# Altium footprint library UDEMY_Library.PcbLib: 35 footprints (part 2 of 3)
Each footprint in its own frame and in the unit in brackets; x right, y up, seen from the top. Pads: shape width x height; smd on the part's side, far side on the other; paste and mask are expansions set on the pad; w line width, h text height; cw(c..) or ccw(c..) is an arc to the next point about the centre after c.
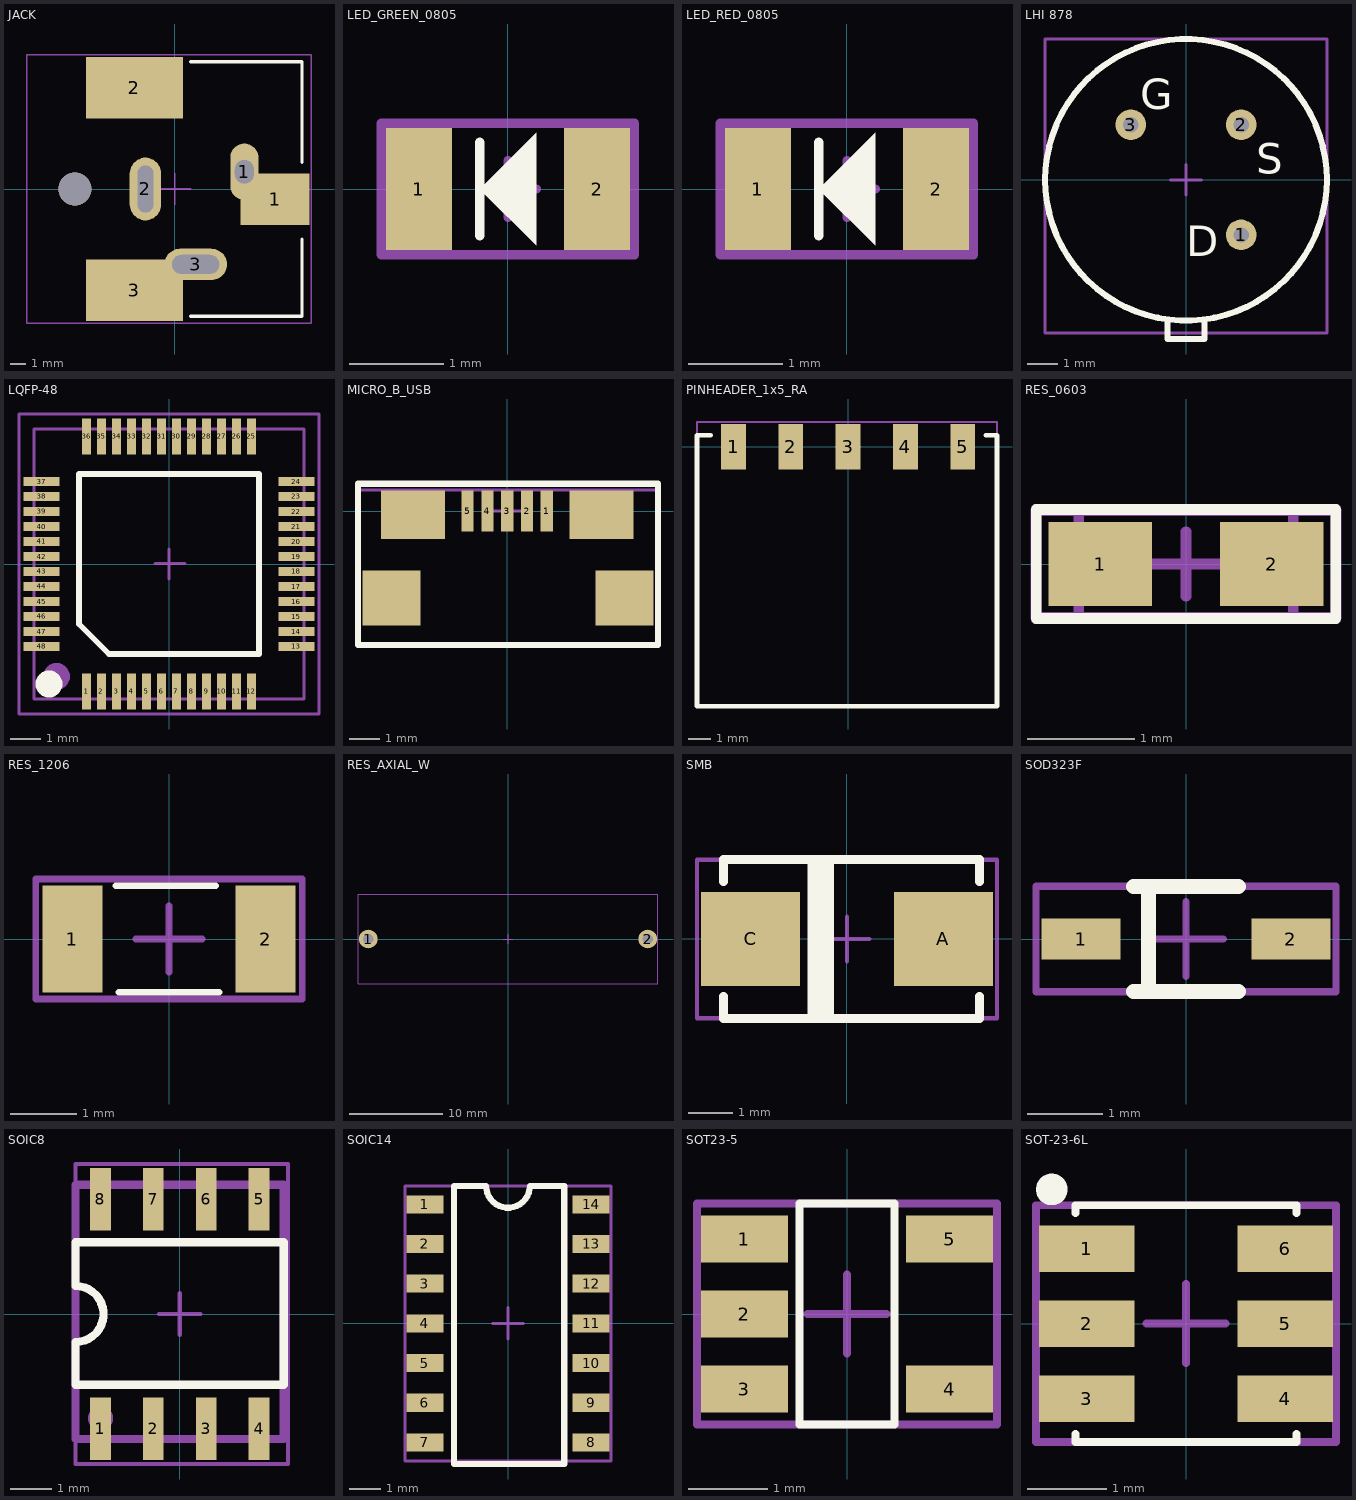
[diagram p1: the footprints below, top view; thin cyan lines are the x and y axes]

## JACK [mm]
pads (7):
  oval 1.8x3.6 hole 1.2 slot 1.5 at 90 deg: 1(4.425,1.1)
  rect 4.4x3.3 smd: 1(6.375,-0.65)
  rect 6.2x3.9 smd: 2(-2.575,6.45) 3(-2.575,-6.45)
  oval 2x4 hole 1 slot 3 at 90 deg: 2(-1.875,0)
  oval 4x2 hole 1.2 slot 3 at 0 deg: 3(1.325,-4.8)
  round 2.1 hole 2.1 unplated: ""(-6.375,0)
Top Overlay:
  lines w0.2: 1,-8.1 8.1,-8.1 8.1,-3.2 ; 1,8.1 8.1,8.1 8.1,1.7
Top Component Center:
  lines w0.1: -1,0 1,0 ; 0,-1 0,1 ; -9.425,-8.55 8.675,-8.55 8.675,8.55 -9.425,8.55 -9.425,-8.55
Top Designator:
  lines w0.1: -9.425,-8.55 -9.425,8.55 8.675,8.55 8.675,-8.55 -9.425,-8.55
  text "'.Designator'" at -6,-0.9 h1.52
3D body "PJ-037AH-SMT-TR.step": height 11.11, standoff -3.29, extent -9.425,-7.55 7.675,7.65

## LED_GREEN_0805 [mm]
pads (2):
  rect 0.7x1.3 smd mask+0.05: 1(-0.95,0) 2(0.95,0)
Top Overlay:
  region: -0.3,0 0.3,0.6 0.3,-0.6
  lines w0.1: -0.3,-0.5 -0.3,0.5
Top Component Center:
  lines w0.1: -0.3,0 0.3,0 ; 0,-0.3 0,0.3 ; -1.35,-0.7 -1.35,0.7 1.35,0.7 1.35,-0.7 -1.35,-0.7
Top Designator:
  lines w0.1: -1.35,-0.7 -1.35,0.7 1.35,0.7 1.35,-0.7 -1.35,-0.7
  text "'.Designator'" at -1.4,-0.7 h0.7
3D body "SMD_0805LED_GREEN.STEP": height 1.1, standoff 0, extent -1.01,-0.625 1.01,0.625

## LED_RED_0805 [mm]
pads (2):
  rect 0.7x1.3 smd mask+0.05: 1(-0.95,0) 2(0.95,0)
Top Overlay:
  region: -0.3,0 0.3,0.6 0.3,-0.6
  lines w0.1: -0.3,-0.5 -0.3,0.5
Top Component Center:
  lines w0.1: -0.3,0 0.3,0 ; 0,-0.3 0,0.3 ; -1.35,-0.7 -1.35,0.7 1.35,0.7 1.35,-0.7 -1.35,-0.7
Top Designator:
  lines w0.1: -1.35,-0.7 -1.35,0.7 1.35,0.7 1.35,-0.7 -1.35,-0.7
  text "'.Designator'" at -1.4,-0.7 h0.7
3D body "SMD_0805LED_RED.STEP": height 1.1, standoff 0, extent -1.01,-0.625 1.01,0.625

## LHI 878 [mm]
pads (3):
  round 1 hole 0.5 mask+0.05: 1(1.8,-1.8) 2(1.8,1.8) 3(-1.8,1.8)
Top Overlay:
  circle w0.2: c0,0 r4.6
  lines w0.2: -0.6,-4.6 -0.6,-4.8 -0.6,-5.2 0.6,-5.2 0.6,-4.6
  text "D" at 0,-2.5 h1
  text "S" at 2.3,0.2 h1
  text "G" at -1.5,2.3 h1
Top Component Center:
  lines w0.1: -0.5,0 0.5,0 ; 0,-0.5 0,0.5 ; -4.6,-5 4.6,-5 4.6,4.6 -4.6,4.6 -4.6,-5
Top Designator:
  lines w0.1: -4.6,-5 4.6,-5 4.6,4.6 -4.6,4.6 -4.6,-5
  text "'.Designator'" at -3.1,-1.4 h1.52
3D body "User Library-LHI878.step": height 4.51, standoff -2.49, extent -4.6,-5.029 4.6,4.6

## LQFP-48 [mm] "7mm x 7mm"
pads (48):
  rect 0.3x1.2 smd mask+0.05: 1(-2.75,-4.25) 2(-2.25,-4.25) 3(-1.75,-4.25) 4(-1.25,-4.25) 5(-0.75,-4.25) 6(-0.25,-4.25) 7(0.25,-4.25) 8(0.75,-4.25) 9(1.25,-4.25) 10(1.75,-4.25) 11(2.25,-4.25) 12(2.75,-4.25) 25(2.75,4.25) 26(2.25,4.25) 27(1.75,4.25) 28(1.25,4.25) 29(0.75,4.25) 30(0.25,4.25) 31(-0.25,4.25) 32(-0.75,4.25) 33(-1.25,4.25) 34(-1.75,4.25) 35(-2.25,4.25) 36(-2.75,4.25)
  rect 1.2x0.3 smd mask+0.05: 13(4.25,-2.75) 14(4.25,-2.25) 15(4.25,-1.75) 16(4.25,-1.25) 17(4.25,-0.75) 18(4.25,-0.25) 19(4.25,0.25) 20(4.25,0.75) 21(4.25,1.25) 22(4.25,1.75) 23(4.25,2.25) 24(4.25,2.75) 37(-4.25,2.75) 38(-4.25,2.25) 39(-4.25,1.75) 40(-4.25,1.25) 41(-4.25,0.75) 42(-4.25,0.25) 43(-4.25,-0.25) 44(-4.25,-0.75) 45(-4.25,-1.25) 46(-4.25,-1.75) 47(-4.25,-2.25) 48(-4.25,-2.75)
Top Overlay:
  circle w0.5: c-4,-4 r0.2
  lines w0.2: -3,-2 -2,-3 3,-3 3,3 -3,3 -3,-2
Mechanical 1:
  circle w0.5: c-3.75,-3.75 r0.2
  lines w0.1: -4.5,-4.5 -4.5,4.5 4.5,4.5 4.5,-4.5 -4.5,-4.5
Top Component Center:
  lines w0.1: -0.465,0.018 0.535,0.018 ; 0,-0.5 0,0.5 ; -5,-5 5,-5 5,5 -5,5 -5,-5
Top Designator:
  lines w0.1: -5,-5 -5,5 5,5 5,-5 -5,-5
  text ".Designator" at -2.118,-0.508 h1.52
3D body "LQFP48-7x7-0_50.step": height 1.46, standoff 0.01, extent -4.5,-4.5 4.5,4.5

## MICRO_B_USB [mm]
pads (9):
  rect 0.4x1.35 smd mask+0.05: 1(1.3,0) 2(0.65,0) 3(0,0) 4(-0.65,0) 5(-1.3,0)
  rect 1.9x1.8 smd mask+0.05: ""(-3.8,-2.85) ""(3.85,-2.85)
  rect 2.1x1.6 smd mask+0.05: ""(-3.1,-0.122) ""(3.1,-0.122)
Top Overlay:
  lines w0.2: -4.9,-4.4 4.95,-4.4 4.95,0.9 -4.9,0.9 -4.9,-4.4
Top Component Center:
  lines w0.1: -0.5,0 0.5,0 ; 0,-0.5 0,0.5 ; -4.9,-4.4 4.9,-4.4 4.9,0.7 -4.9,0.7 -4.9,-4.4
Top Designator:
  lines w0.1: -4.9,-4.4 -4.9,0.7 4.9,0.7 4.9,-4.4 -4.9,-4.4
  text "'.Designator'" at -3.3,-3 h1.52
3D body "10118192C.stp": height 2.78, standoff -0.23, extent -3.956,-5.4 3.956,0.261

## PINHEADER_1x5_RA [mm]
pads (5):
  rect 1.1x2 smd mask+0.05: 1(-5.08,0) 2(-2.54,0) 3(0,0) 4(2.54,0) 5(5.08,0)
Top Overlay:
  lines w0.2: -6.1,0.5 -6.7,0.5 -6.7,-11.5 6.6,-11.5 6.6,0.5 6.1,0.5
Top Component Center:
  lines w0.1: -0.5,0 0.5,0 ; 0,-0.5 0,0.5 ; -6.7,-11.5 6.6,-11.5 6.6,1.1 -6.7,1.1 -6.7,-11.5
Top Designator:
  lines w0.1: -6.7,-11.5 -6.7,1.1 6.6,1.1 6.6,-11.5 -6.7,-11.5
  text "'.Designator'" at -5.8,-6.8 h1.52
3D body "SMH-105-02-L-S.stp": height 2.43, standoff 0.01, extent -6.604,-11.509 6.604,0.429

## RES_0603 [mil]
pads (2):
  rect 38x31 smd mask+1.97: 1(-31.5,0) 2(31.5,0)
Top Overlay:
  lines w3.94: -55,-20 55,-20 55,20 -55,20 -55,-20
Mechanical 1:
  lines w3.94: -39.37,-19.68 -39.37,19.68 39.37,19.68 39.37,-19.68 -39.37,-19.68
Top Component Center:
  lines w3.94: -11.81,0 11.81,0 ; 0,-11.81 0,11.81 ; -55,-20 55,-20 55,20 -55,20 -55,-20
Top Designator:
  lines w3.94: -55.12,-19.68 55.12,-19.68 55.12,19.68 -55.12,19.68 -55.12,-19.68
  text ".Designator" at -44.29,-20.67 h19.68
3D body "0603S1.STEP": height 18.22, standoff 0.5, extent -38.46,-19.28 39.37,19.28

## RES_1206 [mm]
pads (2):
  rect 0.9x1.6 smd mask+0.05: 1(-1.45,0) 2(1.45,0)
Top Overlay:
  lines w0.1: -0.8,0.8 0.7,0.8 ; -0.75,-0.8 0.75,-0.8
Top Component Center:
  lines w0.1: -0.5,0 0.5,0 ; 0,-0.5 0,0.5 ; -2,-0.9 2,-0.9 2,0.9 -2,0.9 -2,-0.9
Top Designator:
  lines w0.1: -2,-0.9 -2,0.9 2,0.9 2,-0.9 -2,-0.9
  text "'.Designator'" at -2.054,-0.838 h0.8
3D body "res1206r.STEP": height 0.56, standoff 0.01, extent -1.985,-0.938 1.984,0.938

## RES_AXIAL_W [mm]
pads (2):
  round 2 hole 1.1 mask+0.05: 1(-15,0) 2(15,0)
Top Component Center:
  lines w0.1: -0.5,0 0.5,0 ; 0,-0.5 0,0.5 ; -16.1,-4.8 -16.1,4.8 -11,4.8 16.1,4.8 16.1,-4.8 -16.1,-4.8
Top Designator:
  lines w0.1: -16.1,-4.8 -16.1,4.8 -11,4.8 16.1,4.8 16.1,-4.8 -16.1,-4.8
  text "'.Designator'" at -5.4,-1.4 h1.52
3D body: height 5.2, standoff 4.4, extent 6.3,-0.4 15.3,0.397
3D body: height 9.65, standoff -6.75, extent -11,-4.75 11,4.75
3D body: height 5, standoff -4, extent -15.398,-0.399 -14.602,0.399
3D body: height 5.2, standoff 4.4, extent -15.3,-0.397 -6.3,0.4
3D body: height 5, standoff -4, extent 14.602,-0.399 15.398,0.399

## SMB [mm]
pads (2):
  rect 2.25x2.12 smd mask+0.05: A(2.185,0) C(-2.185,0)
Top Overlay:
  rectangle: -0.9,-1.8 -0.3,1.8
  lines w0.2: -2.8,-1.3 -2.8,-1.8 3,-1.8 3,-1.3 ; -2.8,1.3 -2.8,1.8 3,1.8 3,1.3
Top Component Center:
  lines w0.1: -0.5,0 0.5,0 ; 0,-0.5 0,0.5 ; -3.4,-1.8 -3.4,1.8 3.4,1.8 3.4,-1.8 -3.4,-1.8
Top Designator:
  lines w0.1: -3.4,-1.8 3.4,-1.8 3.4,1.8 -3.4,1.8 -3.4,-1.8
  text "'.Designator'" at -2.8,-1.6 h1.52
3D body "1SMB5919BT3G.STEP": height 2.48, standoff 0.01, extent -2.72,-1.78 2.72,1.78

## SOD323F [mm]
pads (2):
  rect 1.05x0.55 smd mask+0.05: 1(-1.4,0) 2(1.4,0)
Top Overlay:
  lines w0.2: -0.7,-0.7 0.7,-0.7 ; -0.7,0.7 0.7,0.7 ; -0.5,-0.7 -0.5,0.7
Top Component Center:
  lines w0.1: -0.5,0 0.5,0 ; 0,-0.5 0,0.5 ; -2,-0.7 -2,0.7 2,0.7 2,-0.7 -2,-0.7
Top Designator:
  lines w0.1: -2,-0.7 2,-0.7 2,0.7 -2,0.7 -2,-0.7
  text "'.Designator'" at -1.6,-0.7 h0.7
3D body "SOD323F-1.step": height 1, standoff 0, extent -1.25,-0.675 1.25,0.675

## SOIC8 [mm]
pads (8):
  rect 0.5x1.5 smd mask+0.05: 1(-1.905,-2.75) 2(-0.635,-2.75) 3(0.635,-2.75) 4(1.905,-2.75) 5(1.905,2.75) 6(0.635,2.75) 7(-0.635,2.75) 8(-1.905,2.75)
Top Overlay:
  lines w0.2: -2.503,0.674 -2.503,1.723 2.497,1.723 ; -2.5,0.671 cw(c-2.5,0) -2.5,-0.671 -2.5,-1.7 2.5,-1.7 2.5,1.7
Mechanical 1:
  circle w0.4: c-1.9,-2.5 r0.1
  lines w0.2: -2.5,-3 -2.5,3.1 2.5,3.1 2.5,-3 -2.5,-3
Top Component Center:
  lines w0.1: -0.5,0 0.5,0 ; 0,-0.5 0,0.5 ; -2.5,-3.6 -2.5,3.6 2.6,3.6 2.6,-3.6 -2.5,-3.6
Top Designator:
  lines w0.1: -2.5,-3.6 2.6,-3.6 2.6,3.6 -2.5,3.6 -2.5,-3.6
  text ".Designator" at 1,-2.1 h1.52
3D body "SOIC-8-1.step": height 1.75, standoff 0, extent -2.45,-3 2.45,3

## SOIC14 [mm]
pads (14):
  rect 1.18x0.58 smd mask+0.05: 1(-2.66,3.81) 2(-2.66,2.54) 3(-2.66,1.27) 4(-2.66,0) 5(-2.66,-1.27) 6(-2.66,-2.54) 7(-2.66,-3.81) 8(2.66,-3.81) 9(2.66,-2.54) 10(2.66,-1.27) 11(2.66,0) 12(2.66,1.27) 13(2.66,2.54) 14(2.66,3.81)
Top Overlay:
  lines w0.2: -1.725,-4.5 -1.725,4.4 -0.7,4.4 ccw(c0,4.4) 0.7,4.4 1.8,4.4 1.8,-4.5 -1.725,-4.5
Top Component Center:
  lines w0.1: -0.5,0 0.5,0 ; 0,-0.5 0,0.5 ; -3.3,-4.4 -3.3,4.4 3.3,4.4 3.3,-4.4 -3.3,-4.4
Top Designator:
  lines w0.1: -3.3,-4.4 3.3,-4.4 3.3,4.4 -3.3,4.4 -3.3,-4.4
  text "'.Designator'" at -2.2,-0.9 h1.52
3D body "soic14-1.step": height 1.7, standoff 0, extent -3,-4.4 3,4.4

## SOT23-5 [mm]
pads (5):
  rect 1.1x0.6 smd mask+0.05: 1(-1.3,0.95) 2(-1.3,0) 3(-1.3,-0.95) 4(1.3,-0.95) 5(1.3,0.95)
Top Overlay:
  lines w0.1: -0.6,-1.4 -0.6,1.4 0.6,1.4 0.6,-1.4 -0.6,-1.4
Top Component Center:
  lines w0.1: -0.5,0 0.5,0 ; 0,-0.5 0,0.5 ; -1.9,-1.4 1.9,-1.4 1.9,1.4 -1.9,1.4 -1.9,-1.4
Top Designator:
  lines w0.1: -1.9,-1.4 -1.9,1.4 1.9,1.4 1.9,-1.4 -1.9,-1.4
  text "'.Designator'" at -1.8,-1.2 h1.3
3D body "SOT23-5.STEP": height 1.45, standoff 0, extent -1.4,-1.45 1.4,1.45

## SOT-23-6L [mm]
pads (6):
  rect 1.21x0.59 smd mask+0.05: 1(-1.255,0.95) 2(-1.255,0) 3(-1.255,-0.95) 4(1.255,-0.95) 5(1.255,0) 6(1.255,0.95)
Top Overlay:
  circle w0.2: c-1.7,1.7 r0.1
  lines w0.1: -1.4,-1.4 -1.4,-1.5 1.4,-1.5 1.4,-1.4 ; -1.4,1.4 -1.4,1.5 1.4,1.5 1.4,1.4
Top Component Center:
  lines w0.1: -0.5,0 0.5,0 ; 0,-0.5 0,0.5 ; -1.9,-1.5 -1.9,1.5 -1.4,1.5 1.9,1.5 1.9,-1.5 -1.9,-1.5
Top Designator:
  lines w0.1: -1.9,-1.5 1.9,-1.5 1.9,1.5 -1.4,1.5 -1.9,1.5 -1.9,-1.5
  text "'.Designator'" at -2.1,-1.5 h1.4
3D body "usblc6-2sc6.stp": height 1.18, standoff 0, extent -1.4,-1.446 1.4,1.45